# Altium schematic symbol library Switch SPDT_illum.Schlib: 1 symbol
Pins are listed as number, name and electrical type; pins without a type are passive.

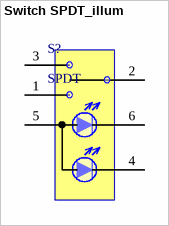
[diagram p0: symbol Switch SPDT_illum]

## Switch SPDT_illum
designator S?, comment SPDT
Switch, SPDT; 4 Manufacturer: NKK Switches of America Inc; 5 Manufacturer P/N: G13JPCF; 2 Description: SPDT, Illuminated; 1 Type: Switch, Toggle; ComponentLink1Description: Manufacturer Link; ComponentLink1URL: http://www.nkkswitches.com/; ComponentLink2Description: Datasheet; ComponentLink2URL: http://www.nkkswitches.com/pdf/gtogglesilluminated.pdf; ComponentLink3Description: Supplier Link; ComponentLink3URL: http://search.digikey.com/scripts/DkSearch/dksus.dll?Detail?name=360-1698-ND; Cost: $7.98
pins: 1 0, 2 1, 3 2, 4 3, 5 4, 6 5